# Altium footprint library GenericComponents.PcbLib: 41 footprints (part 2 of 3)
Each footprint in its own frame and in the unit in brackets; x right, y up, seen from the top. Pads: shape width x height; smd on the part's side, far side on the other; paste and mask are expansions set on the pad; w line width, h text height; cw(c..) or ccw(c..) is an arc to the next point about the centre after c.
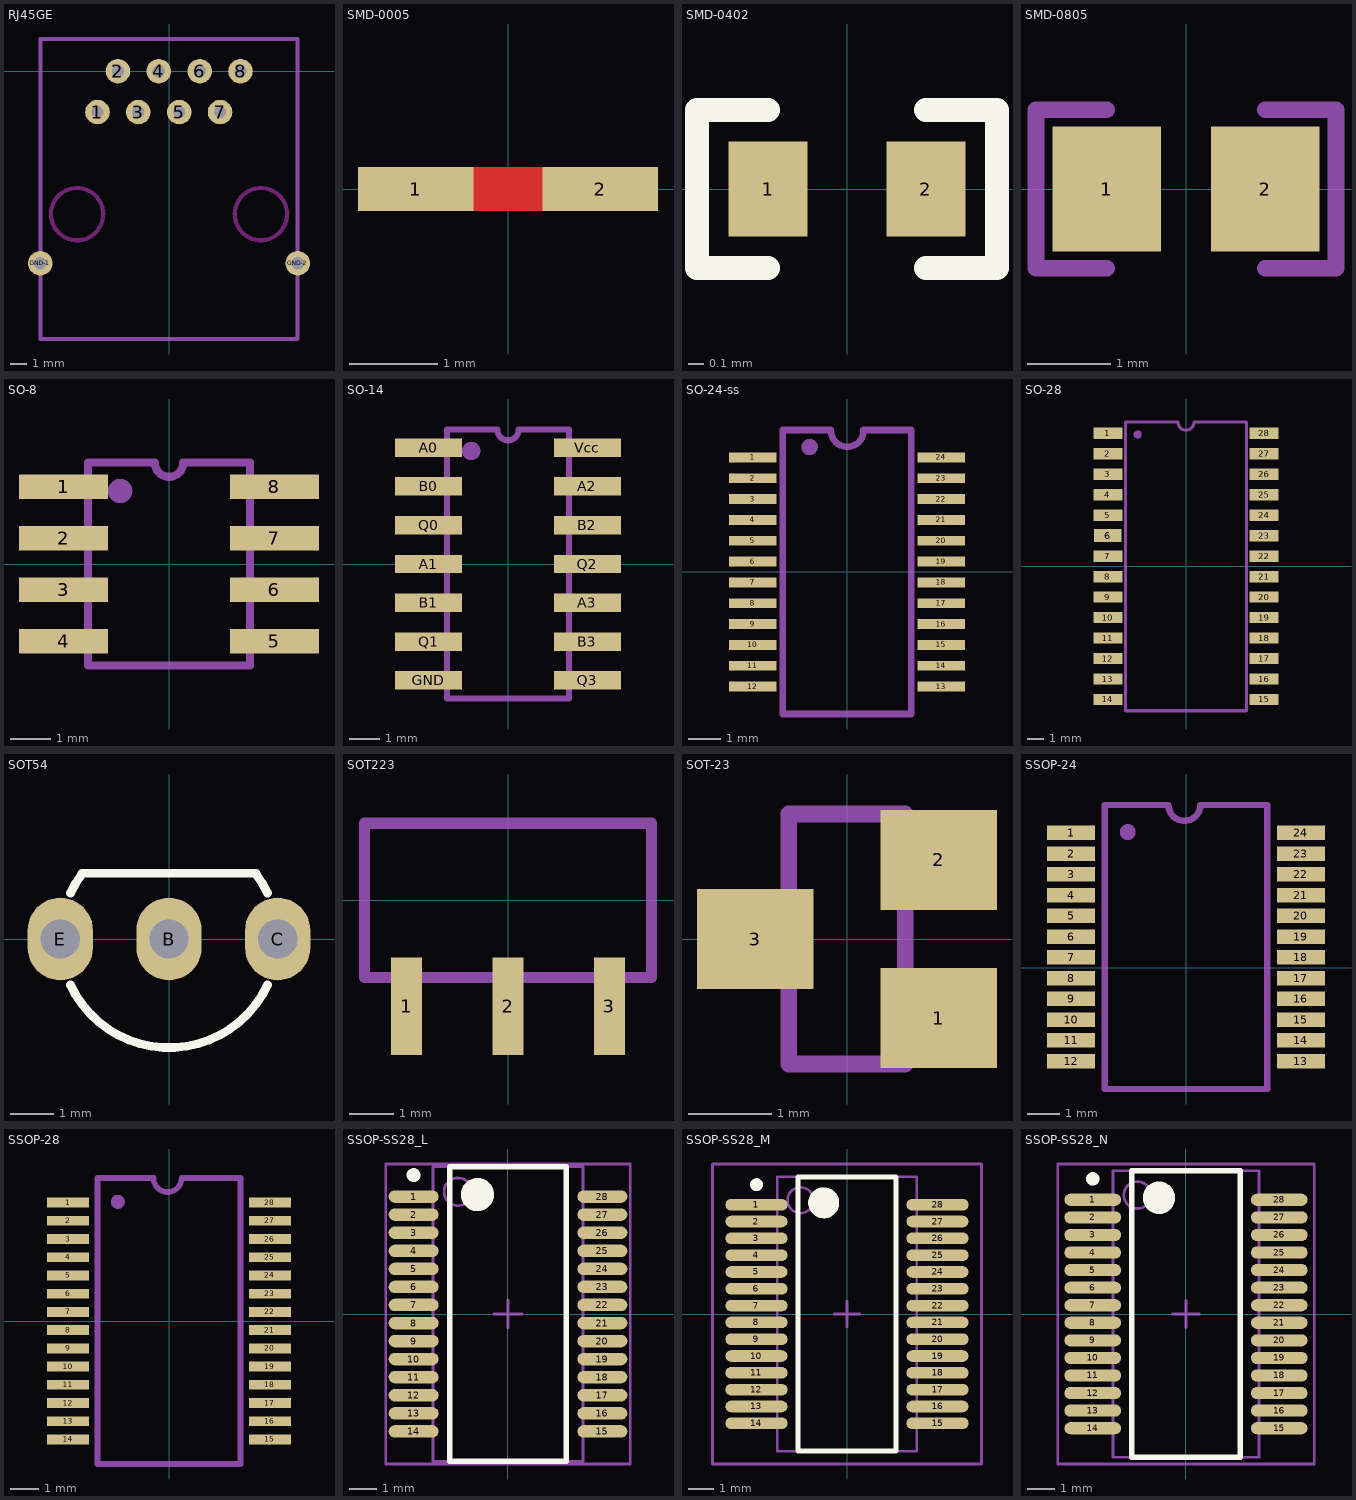
[diagram p1: the footprints below, top view; thin cyan lines are the x and y axes]

## RJ45GE [mil] "Soclu; RJ45; PIN:8; ecranat; Dispunere pini:8p8c; THT"
height 472.44
pads (10):
  round 60 hole 30: 1(-175,-100) 2(-125,0) 3(-75,-100) 4(-25,0) 5(25,-100) 6(75,0) 7(125,-100) 8(175,0) GND-1(-314.96,-470.08) GND-2(314.96,-470.08)
Mechanical 1:
  lines w10: -314.96,-655.51 -314.96,78.74 314.96,78.74 314.96,-655.51 -314.96,-655.51
Multi-Layer keep-out:
  circle w10: c225,-350 r63.98
  circle w10: c-225,-350 r63.98

## SMD-0005 [mm]
pads (2):
  rect 1.3x0.5 smd: 1(-1.041,0) 2(1.041,0)
Top Layer:
  lines w0.5: -0.432,0 0.381,0

## SMD-0402 [mm]
pads (2):
  rect 0.5x0.6 smd: 1(-0.5,0) 2(0.5,0)
Top Overlay:
  lines w0.15: -0.5,-0.5 -0.95,-0.5 -0.95,0 -0.95,0.5 -0.5,0.5 ; 0.5,-0.5 0.95,-0.5 0.95,0.5 0.5,0.5

## SMD-0805 [mm]
pads (2):
  rect 1.3x1.5 smd: 1(-0.95,0) 2(0.95,0)
Mechanical 5:
  lines w0.2: -0.95,-0.95 -1.8,-0.95 -1.8,0.95 -0.95,0.95 ; 0.95,-0.95 1.8,-0.95 1.8,0.95 0.95,0.95
3D body: height 0.78, standoff 0, extent -1,-0.625 1,0.625

## SO-8 [mm]
pads (8):
  rect 2.2x0.6 smd: 1(-2.6,1.905) 2(-2.6,0.635) 3(-2.6,-0.635) 4(-2.6,-1.905) 5(2.6,-1.905) 6(2.6,-0.635) 7(2.6,0.635) 8(2.6,1.905)
Mechanical 5:
  circle w0.2: c-1.205,1.8 r0.2
  circle w0.2: c-1.2,1.8 r0.1
  lines w0.2: -2,-2.5 2,-2.5 2,2.5 0.35,2.5 cw(c0,2.5) -0.35,2.5 -2,2.5 -2,-2.5
3D body: height 1.59, standoff -0.01, extent -3.05,-2.45 2.94,2.45

## SO-14 [mm]
pads (14):
  rect 2.2x0.6 smd: A0(-2.6,3.81) A1(-2.6,0) A2(2.6,2.54) A3(2.6,-1.27) B0(-2.6,2.54) B1(-2.6,-1.27) B2(2.6,1.27) B3(2.6,-2.54) GND(-2.6,-3.81) Q0(-2.6,1.27) Q1(-2.6,-2.54) Q2(2.6,0) Q3(2.6,-3.81) Vcc(2.6,3.81)
Mechanical 5:
  circle w0.2: c-1.205,3.7 r0.2
  circle w0.2: c-1.2,3.7 r0.1
  lines w0.2: -2,-4.4 -2,4.4 -0.35,4.4 ccw(c0,4.4) 0.35,4.4 2,4.4 2,-4.4 -2,-4.4
3D body: height 1.65, standoff 0, extent -3.04,-4.3 3.04,4.3

## SO-24-ss [mm]
height 1.7
pads (24):
  rect 1.441x0.3 smd: 1(-2.877,3.493) 2(-2.877,2.858) 3(-2.877,2.223) 4(-2.877,1.588) 5(-2.877,0.953) 6(-2.877,0.318) 7(-2.877,-0.318) 8(-2.877,-0.953) 9(-2.877,-1.588) 10(-2.877,-2.223) 11(-2.877,-2.858) 12(-2.877,-3.493) 13(2.877,-3.492) 14(2.877,-2.858) 15(2.877,-2.222) 16(2.877,-1.588) 17(2.877,-0.953) 18(2.877,-0.318) 19(2.877,0.318) 20(2.877,0.953) 21(2.877,1.588) 22(2.877,2.222) 23(2.877,2.858) 24(2.877,3.492)
Mechanical 5:
  circle w0.25: c-1.141,3.81 r0.125
  lines w0.2: -0.5,4.331 -1.956,4.331 -1.956,-4.331 1.956,-4.331 1.956,4.331 0.5,4.331 ; -0.492,4.318 ccw(c0.008,4.318) 0.508,4.318
3D body: height 1, standoff 0.2, extent -2.159,-4.445 2.159,4.445

## SO-28 [mm]
height 1.7
pads (28):
  rect 1.8x0.7 smd: 1(-4.85,8.255) 2(-4.85,6.985) 3(-4.85,5.715) 4(-4.85,4.445) 5(-4.85,3.175) 7(-4.85,0.635) 8(-4.85,-0.635) 9(-4.85,-1.905) 10(-4.85,-3.175) 11(-4.85,-4.445) 12(-4.85,-5.715) 13(-4.85,-6.985) 14(-4.85,-8.255) 15(4.85,-8.255) 16(4.85,-6.985) 17(4.85,-5.715) 18(4.85,-4.445) 19(4.85,-3.175) 20(4.85,-1.905) 21(4.85,-0.635) 22(4.85,0.635) 23(4.85,1.905) 24(4.85,3.175) 25(4.85,4.445) 26(4.85,5.715) 27(4.85,6.985) 28(4.85,8.255)
  rect 1.7x0.8 smd: 6(-4.85,1.905)
Mechanical 5:
  circle w0.25: c-2.995,8.179 r0.125
  lines w0.2: -3.75,-8.95 3.75,-8.95 3.75,8.95 0.5,8.95 cw(c0,8.95) -0.5,8.95 -3.75,8.95 -3.75,-8.95
3D body: height 4.7, standoff 0.5, extent -4.445,-9.398 4.445,9.398

## SOT54 [mm]
pads (3):
  oval 1.5x1.9 hole 0.9: B(0,0) C(2.5,0) E(-2.5,0)
Top Overlay:
  lines w0.2: -2.265,-1.057 ccw(c0,0) 2.265,-1.057 ; -2.265,1.057 cw(c0,0) -1.993,1.51 ; -2,1.515 2,1.515 ; 1.993,1.51 cw(c0,0) 2.265,1.057
3D body: height 8.5, standoff -2.8, extent -2.765,-2.528 2.765,1.55

## SOT223 [mm]
pads (3):
  rect 0.7x2.2 smd: 1(-2.3,-2.4) 2(0,-2.4) 3(2.3,-2.4)
Mechanical 1:
  lines w0.254: -3.25,-1.75 3.25,-1.75 3.25,1.75 -3.25,1.75 -3.25,-1.75

## SOT-23 [mm]
height 1
pads (3):
  rect 1.4x1.2 smd: 1(1.1,-0.95) 2(1.1,0.95) 3(-1.1,0)
Mechanical 5:
  lines w0.2: -0.7,-0.25 -1.3,-0.25 -1.3,0.25 -0.7,0.25 ; 0.7,-1.25 1.35,-1.25 1.35,-0.75 0.7,-0.75 ; 0.7,0.75 1.3,0.75 1.3,1.25 0.7,1.25 ; -0.7,-1.5 0.7,-1.5 0.7,1.5 -0.7,1.5 -0.7,-1.5
3D body: height 1.1, standoff 0, extent -1.25,-1.5 1.25,1.5

## SSOP-24 [mm]
height 1.7
pads (24):
  rect 1.5x0.45 smd: 1(-3.6,4.225) 2(-3.6,3.575) 3(-3.6,2.925) 4(-3.6,2.275) 5(-3.6,1.625) 6(-3.6,0.975) 7(-3.6,0.325) 8(-3.6,-0.325) 9(-3.6,-0.975) 10(-3.6,-1.625) 11(-3.6,-2.275) 12(-3.6,-2.925) 13(3.6,-2.925) 14(3.6,-2.275) 15(3.6,-1.625) 16(3.6,-0.975) 17(3.6,-0.325) 18(3.6,0.325) 19(3.6,0.975) 20(3.6,1.625) 21(3.6,2.275) 22(3.6,2.925) 23(3.6,3.575) 24(3.6,4.225)
Mechanical 1:
  lines w0.2: -2.55,-3.8 2.55,-3.8
Mechanical 5:
  circle w0.25: c-1.825,4.25 r0.125
  lines w0.2: -2.55,-3.8 -2.55,5.1 -0.55,5.1 ccw(c-0.05,5.1) 0.45,5.1 2.55,5.1 2.55,-3.8
3D body: height 1, standoff 0.2, extent -3.048,-4.318 3.048,5.588

## SSOP-28 [mm]
height 1.7
pads (28):
  rect 1.5x0.35 smd: 1(-3.6,4.225) 2(-3.6,3.575) 3(-3.6,2.925) 4(-3.6,2.275) 5(-3.6,1.625) 6(-3.6,0.975) 7(-3.6,0.325) 8(-3.6,-0.325) 9(-3.6,-0.975) 10(-3.6,-1.625) 11(-3.6,-2.275) 12(-3.6,-2.925) 13(-3.6,-3.575) 14(-3.6,-4.225) 15(3.6,-4.225) 16(3.6,-3.575) 17(3.6,-2.925) 18(3.6,-2.275) 19(3.6,-1.625) 20(3.6,-0.975) 21(3.6,-0.325) 22(3.6,0.325) 23(3.6,0.975) 24(3.6,1.625) 25(3.6,2.275) 26(3.6,2.925) 27(3.6,3.575) 28(3.6,4.225)
Mechanical 5:
  circle w0.25: c-1.825,4.25 r0.125
  lines w0.2: -2.55,-5.1 -2.55,5.1 -0.55,5.1 ccw(c-0.05,5.1) 0.45,5.1 2.55,5.1 2.55,-5.1 -2.55,-5.1
3D body: height 1.95, standoff 0, extent -4.1,-5.25 4.125,5.25

## SSOP-SS28_L [mm] "SOP, 28-Leads, Body 10.2x5.2mm, Pitch 0.65mm, IPC High Density"
height 2
pads (28):
  oval 1.8x0.45 smd: 1(-3.4,4.225) 2(-3.4,3.575) 3(-3.4,2.925) 4(-3.4,2.275) 5(-3.4,1.625) 6(-3.4,0.975) 7(-3.4,0.325) 8(-3.4,-0.325) 9(-3.4,-0.975) 10(-3.4,-1.625) 11(-3.4,-2.275) 12(-3.4,-2.925) 13(-3.4,-3.575) 14(-3.4,-4.225) 15(3.4,-4.225) 16(3.4,-3.575) 17(3.4,-2.925) 18(3.4,-2.275) 19(3.4,-1.625) 20(3.4,-0.975) 21(3.4,-0.325) 22(3.4,0.325) 23(3.4,0.975) 24(3.4,1.625) 25(3.4,2.275) 26(3.4,2.925) 27(3.4,3.575) 28(3.4,4.225)
Top Overlay:
  circle w0.6: c-1.1,4.3 r0.3
  circle w0.25: c-3.4,5 r0.125
  lines w0.2: -2.1,-5.3 2.1,-5.3 2.1,5.3 -2.1,5.3 -2.1,-5.3
Mechanical 13:
  circle w0.1: c-1.8,4.4 r0.5
  lines w0.1: -2.7,-5.3 2.7,-5.3 2.7,5.3 -2.7,5.3 -2.7,-5.3
Mechanical 15:
  lines w0.1: -0.5,0 0.5,0 ; 0,-0.5 0,0.5 ; -4.4,-5.4 4.4,-5.4 4.4,5.4 -4.4,5.4 -4.4,-5.4
3D body: height 2, standoff 0, extent -2.7,-5.3 2.7,5.3

## SSOP-SS28_M [mm] "SOP, 28-Leads, Body 10.2x5.2mm, Pitch 0.65mm, IPC Low Density"
height 2
pads (28):
  oval 2.4x0.45 smd: 1(-3.5,4.225) 2(-3.5,3.575) 3(-3.5,2.925) 4(-3.5,2.275) 5(-3.5,1.625) 6(-3.5,0.975) 7(-3.5,0.325) 8(-3.5,-0.325) 9(-3.5,-0.975) 10(-3.5,-1.625) 11(-3.5,-2.275) 12(-3.5,-2.925) 13(-3.5,-3.575) 14(-3.5,-4.225) 15(3.5,-4.225) 16(3.5,-3.575) 17(3.5,-2.925) 18(3.5,-2.275) 19(3.5,-1.625) 20(3.5,-0.975) 21(3.5,-0.325) 22(3.5,0.325) 23(3.5,0.975) 24(3.5,1.625) 25(3.5,2.275) 26(3.5,2.925) 27(3.5,3.575) 28(3.5,4.225)
Top Overlay:
  circle w0.25: c-3.5,5 r0.125
  circle w0.6: c-0.9,4.3 r0.3
  lines w0.2: -1.9,-5.3 -1.9,5.3 1.9,5.3 1.9,-5.3 -1.9,-5.3
Mechanical 13:
  circle w0.1: c-1.8,4.4 r0.5
  lines w0.1: -2.7,-5.3 -2.7,5.3 2.7,5.3 2.7,-5.3 -2.7,-5.3
Mechanical 15:
  lines w0.1: -0.5,0 0.5,0 ; 0,-0.5 0,0.5 ; -5.2,-5.8 -5.2,5.8 5.2,5.8 5.2,-5.8 -5.2,-5.8
3D body: height 2, standoff 0, extent -2.7,-5.3 2.7,5.3

## SSOP-SS28_N [mm] "SOP, 28-Leads, Body 10.2x5.2mm, Pitch 0.65mm, IPC Medium Density"
height 2
pads (28):
  oval 2.1x0.45 smd: 1(-3.45,4.225) 2(-3.45,3.575) 3(-3.45,2.925) 4(-3.45,2.275) 5(-3.45,1.625) 6(-3.45,0.975) 7(-3.45,0.325) 8(-3.45,-0.325) 9(-3.45,-0.975) 10(-3.45,-1.625) 11(-3.45,-2.275) 12(-3.45,-2.925) 13(-3.45,-3.575) 14(-3.45,-4.225) 15(3.45,-4.225) 16(3.45,-3.575) 17(3.45,-2.925) 18(3.45,-2.275) 19(3.45,-1.625) 20(3.45,-0.975) 21(3.45,-0.325) 22(3.45,0.325) 23(3.45,0.975) 24(3.45,1.625) 25(3.45,2.275) 26(3.45,2.925) 27(3.45,3.575) 28(3.45,4.225)
Top Overlay:
  circle w0.25: c-3.45,5 r0.125
  circle w0.6: c-1,4.3 r0.3
  lines w0.2: -2,-5.3 -2,5.3 2,5.3 2,-5.3 -2,-5.3
Mechanical 13:
  circle w0.1: c-1.8,4.4 r0.5
  lines w0.1: -2.7,-5.3 -2.7,5.3 2.7,5.3 2.7,-5.3 -2.7,-5.3
Mechanical 15:
  lines w0.1: -0.5,0 0.5,0 ; 0,-0.5 0,0.5 ; -4.75,-5.55 -4.75,5.55 4.75,5.55 4.75,-5.55 -4.75,-5.55
3D body: height 2, standoff 0, extent -2.7,-5.3 2.7,5.3